# Altium footprint library Q 桥堆.PcbLib: 13 footprints
Each footprint in its own frame and in the unit in brackets; x right, y up, seen from the top. Pads: shape width x height; smd on the part's side, far side on the other; paste and mask are expansions set on the pad; w line width, h text height; cw(c..) or ccw(c..) is an arc to the next point about the centre after c.
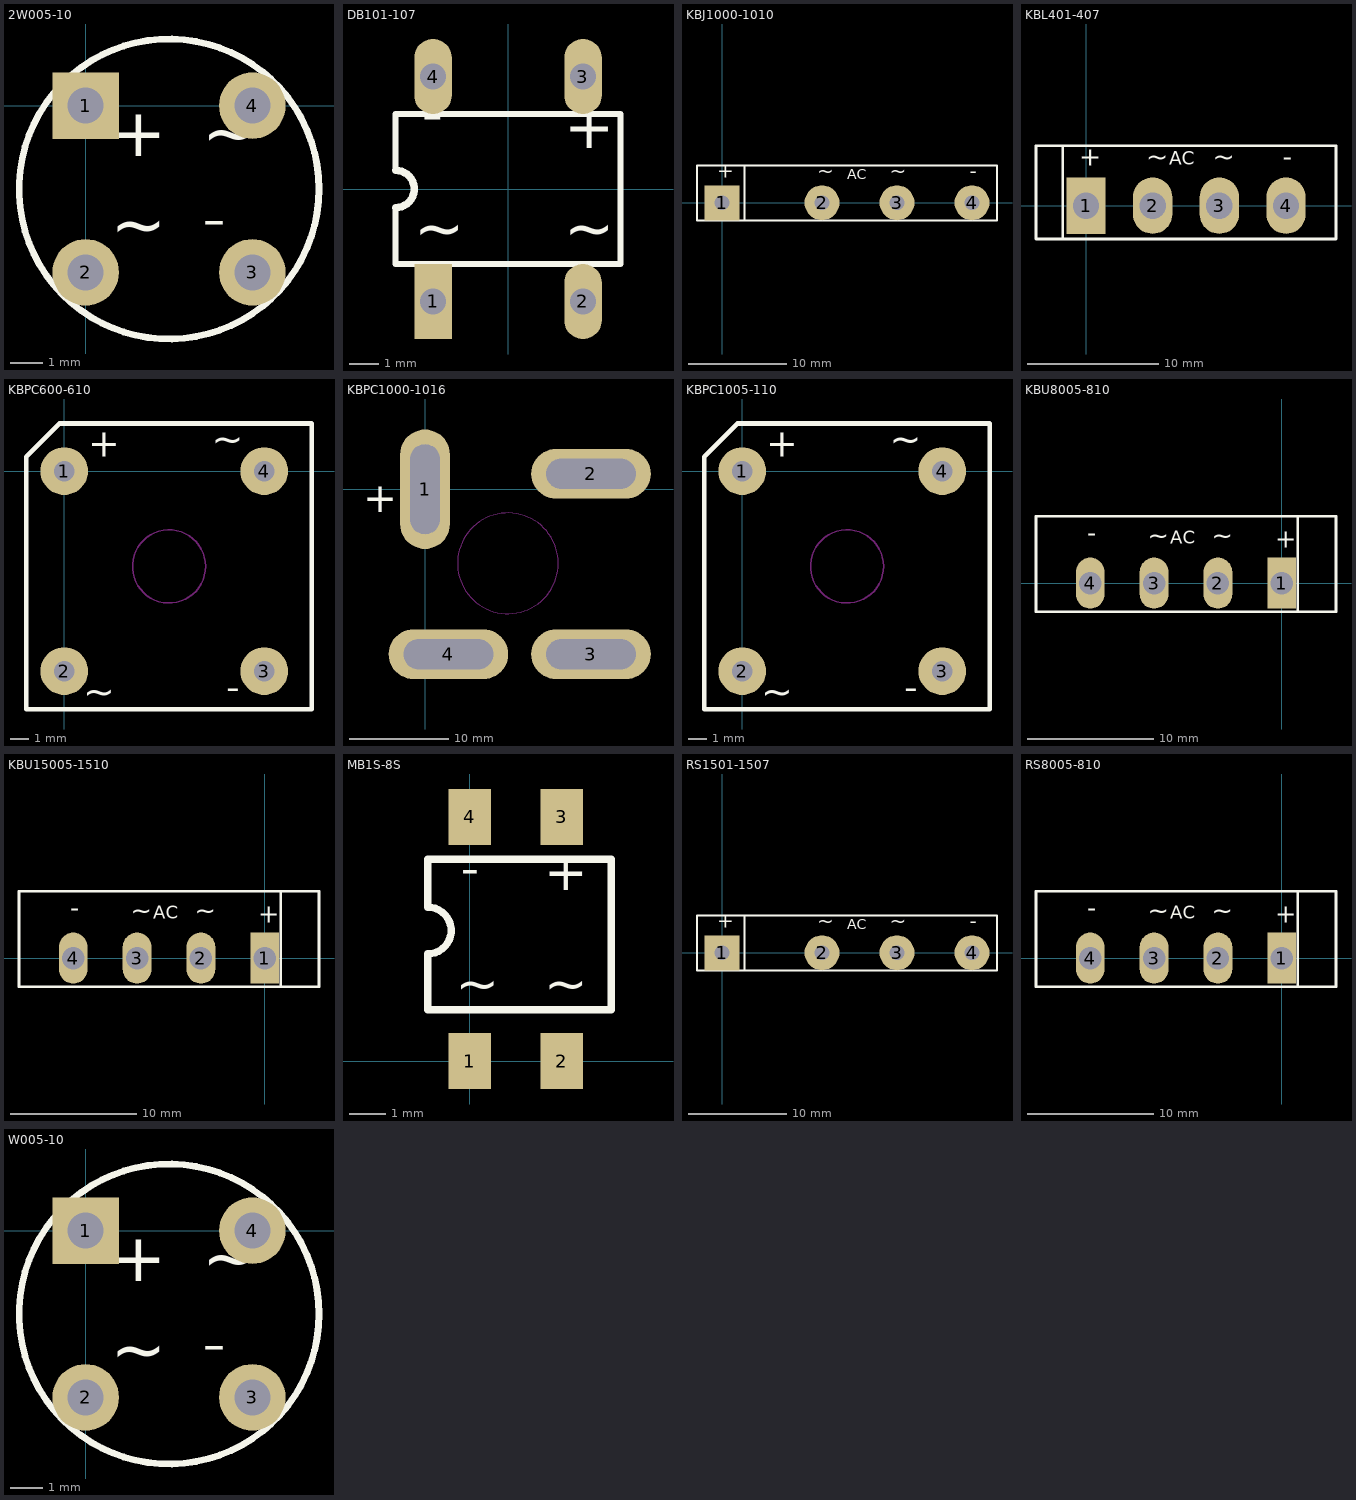
[diagram p0: the footprints below, top view; thin cyan lines are the x and y axes]

## 2W005-10 [mil] "桥堆"
height 314.96
pads (4):
  rect 80x80 hole 43.31: 1(0,0)
  round 80 hole 43.31: 2(0,-200) 3(200,-200) 4(200,0)
Top Overlay:
  circle w8: c100,-100 r180
  text "~" at 140,-80 h100
  text "~" at 30,-190 h100
  text "-" at 140,-180 h100
  text "+" at 30,-80 h100
Bottom Overlay:
  text "+" at 80,-30 h100

## DB101-107 [mil] "桥堆"
height 43.31
pads (4):
  rect 50x100 hole 35: 1(-100,-150)
  oval 50x100 hole 35: 2(100,-150) 3(100,150) 4(-100,150)
Top Overlay:
  lines w8: -150,-25 -150,-100 150,-100 150,100 -150,100 -150,25
  lines w10: -150,-25 ccw(c-150,0) -150,25
  text "~" at -125,-100 h100
  text "~" at 75,-100 h100
  text "+" at 75,35 h100
  text "-" at -115,55 h100

## KBJ1000-1010 [mil] "桥堆"
height 1023.62
pads (4):
  rect 140x140 hole 59.02: 1(0,0)
  round 140 hole 59: 2(400,0)
  round 140 hole 59.02: 3(700,0) 4(1000,0)
Top Overlay:
  lines w8: 90,-70 90,150 ; -100,-70 -100,150 1100,150 1100,-70 -100,-70
  text "~" at 670,80 h100
  text "AC" at 500,80 h70
  text "~" at 380,80 h100
  text "-" at 990,80 h100
  text "+" at -20,80 h100

## KBL401-407 [mm] "桥堆"
height 20
pads (4):
  rect 3x4.3 hole 2: 1(0,0)
  oval 3x4.3 hole 2: 2(5.08,0) 3(10.16,0) 4(15.24,0)
Top Overlay:
  lines w0.203: -1.778,-2.54 -1.778,4.572 ; -3.81,-2.54 19.05,-2.54 19.05,4.572 -3.81,4.572 -3.81,-2.54
  text "~" at 9.652,2.54 h2.54
  text "AC" at 6.35,2.794 h1.78
  text "~" at 4.572,2.54 h2.54
  text "-" at 14.986,2.54 h2.54
  text "+" at -0.508,2.54 h2.54

## KBPC600-610 [mil] "桥堆"
height 314.96
pads (4):
  round 100 hole 43.31: 1(0,0) 2(0,-420) 3(420,-420) 4(420,0)
Top Overlay:
  lines w10: -80,-500 -80,30 -10,100 520,100 520,-500 -80,-500
  text "~" at 310,20 h100
  text "~" at 40,-510 h100
  text "-" at 340,-500 h100
  text "+" at 50,10 h100
Bottom Overlay:
  text "+" at 90,-90 h100
Keep-Out Layer:
  circle w2.99: c220,-200 r76.77

## KBPC1000-1016 [mm] "桥堆"
height 15
pads (4):
  oval 5x12 hole 3 slot 9 at 90 deg: 1(0,0)
  oval 12x5 hole 3 slot 9 at 0 deg: 2(16.65,1.55) 3(16.65,-16.55) 4(2.35,-16.55)
Top Overlay:
  text "+" at -2.794,1.27 h5.08
Bottom Overlay:
  lines w0.254: -5.874,4.65 -5.874,4.9 ; -5.874,4.9 -4.05,6.724 ; -5.874,4.9 -4.05,6.724 ; -5.874,4.9 -5.874,-21.724 22.574,-21.724 22.574,6.724 -4.05,6.724
  text "+" at -4.826,6.35 h5.08
  text "-" at 20.32,-19.304 h5.08
  text "~" at -5.334,-18.542 h5.08
  text "~" at 19.304,6.858 h5.08
Keep-Out Layer:
  circle w0.099: c8.319,-7.431 r5.056

## KBPC1005-110 [mil] "桥堆"
height 314.96
pads (4):
  round 100 hole 43.31: 1(0,0) 2(0,-420) 3(420,-420) 4(420,0)
Top Overlay:
  lines w10: -80,-500 520,-500 520,100 -10,100 -80,30 -80,-500
  text "+" at 50,10 h100
  text "-" at 340,-500 h100
  text "~" at 40,-510 h100
  text "~" at 310,20 h100
Bottom Overlay:
  text "+" at 90,-90 h100
Keep-Out Layer:
  circle w2.99: c220,-200 r76.77

## KBU8005-810 [mil] "桥堆"
height 787.4
pads (4):
  rect 90x160 hole 70: 1(0,0)
  oval 90x160 hole 70: 2(-200,0) 3(-400,0) 4(-600,0)
Top Overlay:
  lines w8: 50,-90 50,210 ; -770,-90 170,-90 170,210 -770,210 -770,-90
  text "~" at -420,100 h100
  text "AC" at -350,110 h70
  text "~" at -220,100 h100
  text "-" at -610,110 h100
  text "+" at -20,90 h100

## KBU15005-1510 [mil] "桥堆"
height 1023.62
pads (4):
  rect 90x160 hole 70: 1(0,0)
  oval 90x160 hole 70: 2(-200,0) 3(-400,0) 4(-600,0)
Top Overlay:
  lines w8: 50,-90 50,210 ; -770,-90 170,-90 170,210 -770,210 -770,-90
  text "~" at -420,100 h100
  text "AC" at -350,110 h70
  text "~" at -220,100 h100
  text "-" at -610,110 h100
  text "+" at -20,90 h100

## MB1S-8S [mm] "桥堆"
height 3
pads (4):
  rect 1.16x1.52 smd: 1(0,0) 2(2.5,0) 3(2.5,6.65) 4(0,6.65)
Top Overlay:
  lines w0.203: -1.143,1.397 -1.143,2.921 ccw(c-1.143,3.556) -1.143,4.191 -1.143,5.497 3.857,5.497 3.857,1.397 -1.143,1.397
  text "-" at -0.254,4.445 h1.78
  text "+" at 2.032,4.318 h1.78
  text "~" at 2.032,1.27 h1.78
  text "~" at -0.381,1.27 h1.78

## RS1501-1507 [mil] "桥堆"
pads (4):
  rect 140x140 hole 59.02: 1(0,0)
  round 140 hole 59: 2(400,0)
  round 140 hole 59.02: 3(700,0) 4(1000,0)
Top Overlay:
  lines w8: 90,-70 90,150 ; -100,-70 1100,-70 1100,150 -100,150 -100,-70
  text "+" at -20,80 h100
  text "-" at 990,80 h100
  text "~" at 380,80 h100
  text "AC" at 500,80 h70
  text "~" at 670,80 h100

## RS8005-810 [mil] "桥堆"
height 787.4
pads (4):
  rect 90x160 hole 70: 1(0,0)
  oval 90x160 hole 70: 2(-200,0) 3(-400,0) 4(-600,0)
Top Overlay:
  lines w8: 50,-90 50,210 ; -770,-90 -770,210 170,210 170,-90 -770,-90
  text "+" at -20,90 h100
  text "-" at -610,110 h100
  text "~" at -220,100 h100
  text "AC" at -350,110 h70
  text "~" at -420,100 h100

## W005-10 [mil] "桥堆"
height 314.96
pads (4):
  rect 80x80 hole 43.31: 1(0,0)
  round 80 hole 43.31: 2(0,-200) 3(200,-200) 4(200,0)
Top Overlay:
  circle w8: c100,-100 r180
  text "+" at 30,-80 h100
  text "-" at 140,-180 h100
  text "~" at 30,-190 h100
  text "~" at 140,-80 h100
Bottom Overlay:
  text "+" at 80,-30 h100